# Altium integrated library PLC.IntLib: 9 symbols
Pins are listed as number, name and electrical type; pins without a type are passive.

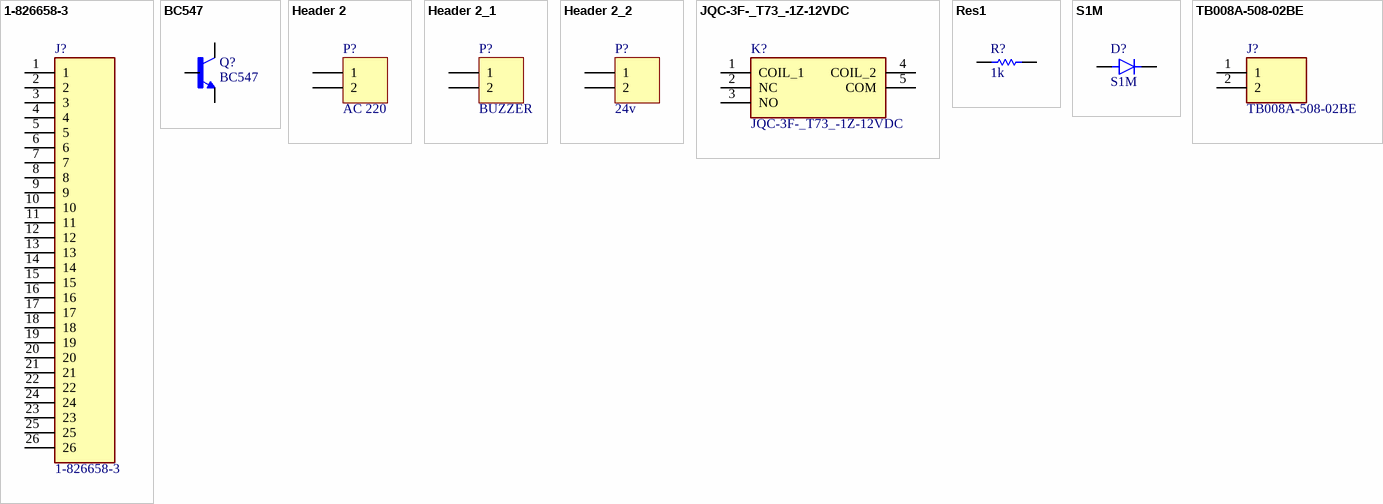
[diagram p0: symbols 1-826658-3 to TB008A-508-02BE]

## 1-826658-3
designator J?
AMPMODU II PIN HEADER 2X13P; Product_Type: Connector; Centerline_Pitch: 2.54 mm[.1 in]; Number_of_Positions: 26; MF: TE Connectivity; MP: 1-826658-3; Package: None; EU_RoHS_Compliance: Compliant; Check_prices: https://www.snapeda.com/parts/1-826658-3/TE%20Connectivity%20AMP%20Connectors/view-part/1429931/?ref=eda; SnapEDA_Link: https://www.snapeda.com/parts/1-826658-3/TE%20Connectivity%20AMP%20Connectors/view-part/1429931/?ref=snap; Price: None; Availability: Warning; Value: *
footprint TE_1-826658-3
pins: 1, 2, 3, 4, 5, 6, 7, 8, 9, 10, 11, 12, 13, 14, 15, 16, 17, 18, 19, 20, 21, 22, 23, 24, 25, 26

## BC547
designator Q?
Trans GP BJT NPN 45V 0.1A 500mW 3-Pin TO-92 T/R; MF: ON Semiconductor; Package: None; Price: None; Value: *; SnapEDA_Link: https://www.snapeda.com/parts/BC547/Onsemi/view-part/?ref=snap; MP: BC547; Availability: In Stock; Check_prices: https://www.snapeda.com/parts/BC547/Onsemi/view-part/?ref=eda
footprint TO92
pins: 1 C, 2 B, 3 E

## Header 2
designator P?, comment AC 220
Header, 2-Pin; LatestRevisionDate: 17-Jul-2002; LatestRevisionNote: Re-released for DXP Platform.; Publisher: Altium Limited
footprint SMD_Connector_2PIN
footprint HDR1X2_SMD - THD
pins: 1, 2

## Header 2_1
designator P?, comment BUZZER
Header, 2-Pin; LatestRevisionDate: 17-Jul-2002; LatestRevisionNote: Re-released for DXP Platform.; Publisher: Altium Limited
footprint SMD_Connector_2PIN
footprint HDR1X2_SMD - THD
pins: 1, 2

## Header 2_2
designator P?, comment 24v
Header, 2-Pin; LatestRevisionDate: 17-Jul-2002; LatestRevisionNote: Re-released for DXP Platform.; Publisher: Altium Limited
footprint SMD_Connector_2PIN
footprint HDR1X2_SMD - THD
pins: 1, 2

## JQC-3F-_T73_-1Z-12VDC
designator K?
RELAY POWER 10A 12VDC 1C PCB TYPE (JS1) 5PIN QIANJ; Manufacturer_Name: QIANJI; Manufacturer_Part_Number: JQC-3F-(T73)-1Z-12VDC; Geometry.Height: 15.5mm; Mouser Part Number: *; Mouser Price/Stock: *; Arrow Part Number: *; Arrow Price/Stock: *; Datasheet Link: https://img.ozdisan.com/ETicaret_Dosya/341245_8627675.pdf
footprint JQC3FT731Z12VDC
pins: 1 COIL_1, 2 NC, 3 NO, 4 COIL_2, 5 COM

## Res1
designator R?, comment 1k
Resistor; Value: 10k; Published: 8-Jun-2000; LatestRevisionDate: 17-Jul-2002; LatestRevisionNote: Re-released for DXP Platform.; PackageReference: AXIAL-0.3; Publisher: Altium Limited; PackageDescription: Axial Device, Thru-Hole; 2 Leads; 0.3 in Pin Spacing
simulation model RESISTOR (Resistor)
signal-integrity model Res
footprint 0603 - RESISTOR_SMALL
footprint 0805 - CAP - duplicate
pins: 1, 2

## S1M
designator D?
Diode Standard 1000 V 1A Surface Mount DO-214AC (SMA); MF: Diotec Semiconductor; Value: *; MP: S1M; Price: None; Package: DO-214AC-2 Diotec; Availability: In Stock; SnapEDA_Link: https://www.snapeda.com/parts/S1M/Diotec/view-part/?ref=snap; Purchase-URL: https://pricing.snapeda.com/search/part/S1M/?ref=eda; Check_prices: https://www.snapeda.com/parts/S1M/Diotec/view-part/?ref=eda
footprint DIOM5227X270N
pins: A, C K

## TB008A-508-02BE
designator J?
Fixed Terminal Blocks screw type, 5.08 , 45 , 2 poles, CUI Blue, slotted screw, PCB mount; Manufacturer_Name: CUI Devices; Geometry.Height: 15.82mm; Manufacturer_Part_Number: TB008A-508-02BE; Mouser Part Number: 490-TB008A-508-02BE; Mouser Price/Stock: https://www.mouser.co.uk/ProductDetail/CUI-Devices/TB008A-508-02BE?qs=vLWxofP3U2w5I2Hxj8y2hQ%3D%3D; Arrow Part Number: TB008A-508-02BE; Arrow Price/Stock: https://www.arrow.com/en/products/tb008a-508-02be/cui-devices?region=nac; Datasheet Link: https://componentsearchengine.com/Datasheets/1/TB008A-508-02BE.pdf
footprint TB008A50802BE
footprint PHOENIX_1935161
pins: 1, 2